# Altium footprint library Libreria_Borxo_Pcb.PcbLib: 38 footprints (part 2 of 3)
Each footprint in its own frame and in the unit in brackets; x right, y up, seen from the top. Pads: shape width x height; smd on the part's side, far side on the other; paste and mask are expansions set on the pad; w line width, h text height; cw(c..) or ccw(c..) is an arc to the next point about the centre after c.
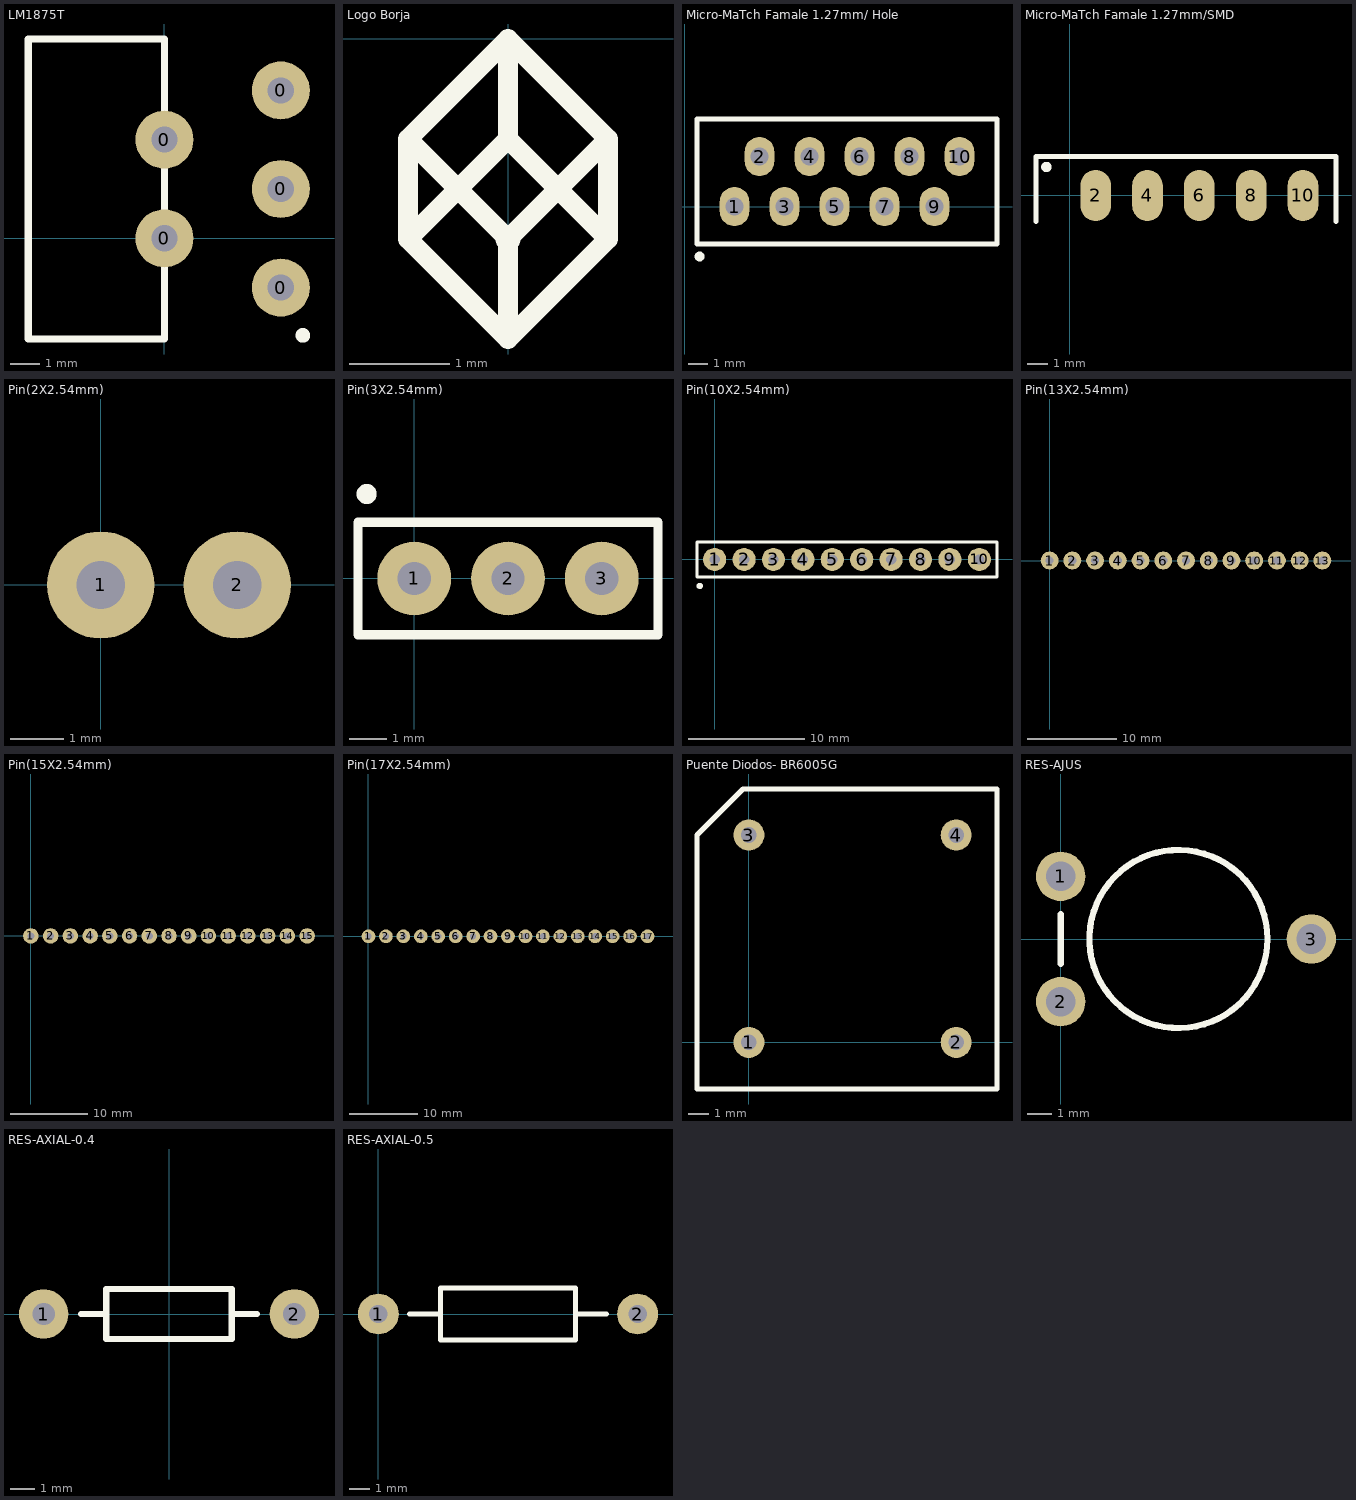
[diagram p1: the footprints below, top view; thin cyan lines are the x and y axes]

## LM1875T [mm] "Amplificador-Texas Intrument-20W"
pads (5):
  round 2 hole 0.9 mask+0.2: 0(0,0) 0(0,3.404) 0(4.013,-1.702) 0(4.013,1.7) 0(4.013,5.102)
Top Overlay:
  circle w0.254: c4.775,-3.35 r0.125
  lines w0.254: -4.7,-3.475 0,-3.475 0,6.875 -4.7,6.875 -4.7,-3.475
3D body "LM1875T.stp": height 22.79, standoff -1.16, extent -4.318,-3.429 4.153,6.731

## Logo Borja [mm]
Top Overlay:
  lines w0.2: -1,-2 -1,-1 ; -1,-2 0,-3 ; -1,-2 0,-1 ; -1,-1 0,-2 ; -1,-1 0,0 ; 0,-3 0,-2 ; 0,-3 1,-2 ; 0,-2 1,-1 ; 0,-1 1,-2 ; 0,-1 0,0 ; 0,0 1,-1 ; 1,-2 1,-1
  lines w0.254: 0,-2 0,-2

## Micro-MaTch Famale 1.27mm/ Hole [mm] "TE Connection"
pads (10):
  oval 1.5x2 hole 0.9 mask+0.2: 1(2.54,0) 2(3.81,2.54) 3(5.08,0) 4(6.35,2.54) 5(7.62,0) 6(8.89,2.54) 7(10.16,0) 8(11.43,2.54) 9(12.7,0) 10(13.97,2.54)
Top Overlay:
  circle w0.254: c0.762,-2.54 r0.125
  lines w0.254: 0.635,-1.905 0.635,4.445 15.875,4.445 15.875,-1.905 0.635,-1.905
3D body "c-1-2178710-0-a-3d.stp": height 4, standoff -3.15, extent 0.991,-1.255 15.621,3.745

## Micro-MaTch Famale 1.27mm/SMD [mm]
pads (10):
  round 0 / inner oval 1.5x2.5 / far side oval 1.5x2.5 all layers, no hole mask+0.2: 1(0,0) 3(2.54,0) 5(5.08,0) 7(7.62,0) 9(10.16,0)
  oval 1.5x2.5 / inner oval 1.5x2.5 / far side round 0 all layers, no hole mask+0.2: 2(1.27,0) 4(3.81,0) 6(6.35,0) 8(8.89,0) 10(11.43,0)
Top Overlay:
  circle w0.254: c-1.143,1.397 r0.125
  lines w0.254: -1.651,-1.27 -1.651,1.905 13.049,1.905 13.049,-1.27
3D body "c-1-2178710-0-a-3d.stp": height 2.6, standoff -2.4, extent -1.473,-6.604 13.157,0.546

## PCBComponent_1 [mm]

## PCBComponent_1 - duplicate [mm]

## Pin(2X2.54mm) [mm] "Tira de Pines Macho"
pads (2):
  round 2 hole 0.9 mask+0.2: 1(0,0) 2(2.54,0)
Bottom Overlay:
  circle w0.5: c-1.29,2.286 r0.02
  lines w0.254: -1.524,-1.524 -1.524,1.524 4.064,1.524 4.064,-1.524 -1.524,-1.524
3D body "pin_header_aw140-eg-g02d.stp": height 8.2, standoff -3, extent -1.143,-1.302 3.937,1.196

## Pin(3X2.54mm) [mm] "Tira de Pines Macho"
pads (3):
  round 2 hole 0.9 mask+0.2: 1(0,0) 2(2.54,0) 3(5.08,0)
Top Overlay:
  circle w0.5: c-1.29,2.286 r0.02
  lines w0.254: -1.524,-1.524 6.604,-1.524 6.604,1.524 -1.524,1.524 -1.524,-1.524
3D body "pin_header_aw140-eg-g03d.stp": height 2.55, standoff -8.65, extent -1.17,-1.246 6.45,1.253

## Pin(10X2.54mm) [mm] "Tira de Pines Macho"
pads (10):
  round 2 hole 0.9 mask+0.2: 1(0,0) 2(2.54,0) 3(5.08,0) 4(7.62,0) 5(10.16,0) 6(12.7,0) 7(15.24,0) 8(17.78,0) 9(20.32,0) 10(22.86,0)
Top Overlay:
  circle w0.5: c-1.29,-2.286 r0.02
  lines w0.254: -1.524,-1.524 24.384,-1.524 24.384,1.524 -1.524,1.524 -1.524,-1.524
3D body "pin_header_aw140-eg-g10d.STEP": height 2.6, standoff -8.6, extent -1.143,-1.249 24.313,1.249

## Pin(13X2.54mm) [mm] "Tira de Pines Macho"
pads (13):
  round 2 hole 0.9 mask+0.2: 1(0,0) 2(2.54,0) 3(5.08,0) 4(7.62,0) 5(10.16,0) 6(12.7,0) 7(15.24,0) 8(17.78,0) 9(20.32,0) 10(22.86,0) 11(25.4,0) 12(27.94,0) 13(30.48,0)
Bottom Overlay:
  circle w0.5: c-1.29,-2.286 r0.02
  lines w0.254: -1.524,-1.524 -1.524,1.524 32.004,1.524 32.004,-1.524 -1.524,-1.524
3D body "pin_header_aw140-eg-g13d.stp": height 8.2, standoff -3, extent -1.17,-1.252 31.85,1.246

## Pin(15X2.54mm) [mm] "Tira de Pines Macho"
pads (15):
  round 2 hole 0.9 mask+0.2: 1(0,0) 2(2.54,0) 3(5.08,0) 4(7.62,0) 5(10.16,0) 6(12.7,0) 7(15.24,0) 8(17.78,0) 9(20.32,0) 10(22.86,0) 11(25.4,0) 12(27.94,0) 13(30.48,0) 14(33.02,0) 15(35.56,0)
Bottom Overlay:
  circle w0.5: c-1.29,-2.286 r0.02
  lines w0.254: -1.524,-1.524 37.084,-1.524 37.084,1.524 -1.524,1.524 -1.524,-1.524
3D body "pin_header_aw140-eg-g15d.stp": height 8.2, standoff -3, extent -1.17,-1.253 36.93,1.246

## Pin(17X2.54mm) [mm] "Tira de Pines Macho"
pads (17):
  round 2 hole 0.9 mask+0.2: 1(0,0) 2(2.54,0) 3(5.08,0) 4(7.62,0) 5(10.16,0) 6(12.7,0) 7(15.24,0) 8(17.78,0) 9(20.32,0) 10(22.86,0) 11(25.4,0) 12(27.94,0) 13(30.48,0) 14(33.02,0) 15(35.56,0) 16(38.1,0) 17(40.64,0)
Bottom Overlay:
  circle w0.5: c-1.29,-2.286 r0.02
  lines w0.254: -1.524,-1.524 -1.524,1.524 42.164,1.524 42.164,-1.524 -1.524,-1.524
3D body "pin_header_aw140-eg-g17d.stp": height 8.2, standoff -3, extent -1.17,-1.253 42.01,1.246

## Puente Diodos- BR6005G [mil] "BRIDGE RECTIFIERS- HY-BR6005G"
pads (4):
  round 60 hole 30: 1(0,0) 2(400,0) 3(0,400) 4(400,400)
Top Overlay:
  lines w10: -100,-90 -100,400 -11.26,488.74 478.74,488.74 478.74,-90 -100,-90

## RES-AJUS [mm]
pads (3):
  round 2 hole 1.2 mask+0.2: 1(0,2.54) 2(0,-2.54) 3(10.16,0)
Top Overlay:
  circle w0.254: c4.772,0 r3.61
  lines w0.254: 0,-1 0,1
3D body "User Library-Trimpot smd V10.STEP": height 6.1, standoff -3.2, extent -0.07,-5.15 10.23,5.15

## RES-AXIAL-0.4 [mm] "Axial Device, Thru-Hole; 2 Leads; 0.4 in Pin Spacing"
height 2.032
pads (2):
  round 2 hole 0.9 mask+0.2: 1(-5.08,0) 2(5.08,0)
Top Overlay:
  lines w0.254: -3.556,0 -2.54,0 ; 2.54,0 3.556,0 ; -2.54,-1.016 2.54,-1.016 2.54,1.016 -2.54,1.016 -2.54,-1.016

## RES-AXIAL-0.5 [mm] "Axial Device, Thru-Hole; 2 Leads; 0.5 in Pin Spacing"
height 2.54
pads (2):
  round 2 hole 0.9 mask+0.2: 1(0,0) 2(12.7,0)
Top Overlay:
  lines w0.254: 1.524,0 3.048,0 ; 9.652,0 11.176,0 ; 3.048,-1.27 9.652,-1.27 9.652,1.27 3.048,1.27 3.048,-1.27
3D body "User Library-Res50-Axial 0_5W-1K.step": height 3.37, standoff -6, extent -0.375,-1.972 13.075,1.778